# EAGLE library part SJA1000 (library bytewerk-network)
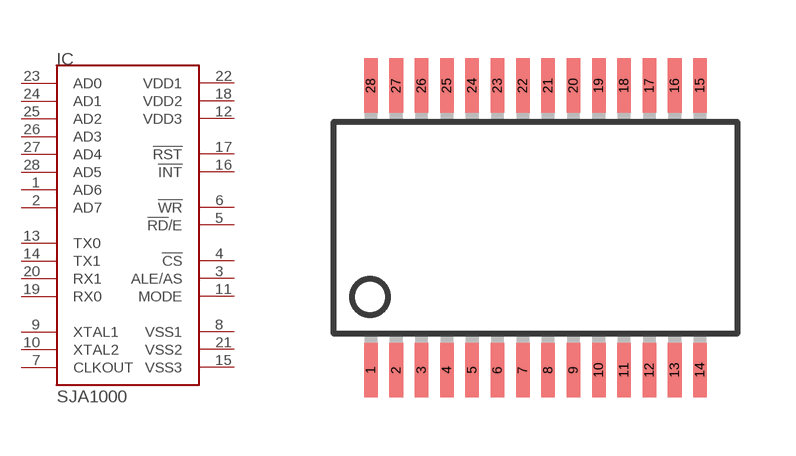
[diagram p2: symbol with the pads of SJA1000-SO28; footprint SJA1000-SO28]

Designator prefix IC

## SJA1000  [SJA1000-SO28]
1  AD6
2  AD7
3  ALE/AS
4  !CS!
5  !RD!/E
6  !WR!
7  CLKOUT
8  VSS1  pwr
9  XTAL1
10  XTAL2
11  MODE
12  VDD3  pwr
13  TX0
14  TX1
15  VSS3  pwr
16  !INT!
17  !RST!
18  VDD2  pwr
19  RX0
20  RX1
21  VSS2  pwr
22  VDD1  pwr
23  AD0
24  AD1
25  AD2
26  AD3
27  AD4
28  AD5

## Footprint SJA1000-SO28 (pad centres in mm)
smd 0.348 x 1.397: 1 -4.225,-3.656; 2 -3.575,-3.656; 3 -2.925,-3.656; 4 -2.275,-3.656; 5 -1.625,-3.656; 6 -0.975,-3.656; 7 -0.325,-3.656; 8 0.325,-3.656; 9 0.975,-3.656; 10 1.625,-3.656; 11 2.275,-3.656; 12 2.925,-3.656; 13 3.575,-3.656; 14 4.225,-3.656; 15 4.225,3.656; 16 3.575,3.656; 17 2.925,3.656; 18 2.275,3.656; 19 1.625,3.656; 20 0.975,3.656; 21 0.325,3.656; 22 -0.325,3.656; 23 -0.975,3.656; 24 -1.625,3.656; 25 -2.275,3.656; 26 -2.925,3.656; 27 -3.575,3.656; 28 -4.225,3.656